# EAGLE library part DPDT_SWITCH (library 326298_rev_a)
MARQUARDT SWITCH 9077.0200 Distributor: Buerklin <https://www.buerklin.com/default.asp?event=ShowArtikel%2812G2822%29&l=d&jump=ArtNr_12G2822>
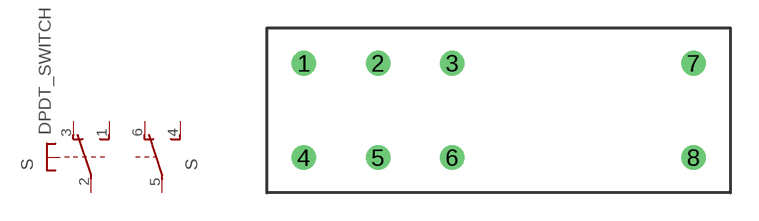
[diagram p29: symbol with the pads of DPDT_SWITCH; footprint DPDT_SWITCH]

Designator prefix S; gates 1=TSU- 2=U-2

## DPDT_SWITCH  [DPDT_SWITCH]
1  1:S  pas
2  1:P  pas
3  1:O  pas
4  2:S  pas
5  2:P  pas
6  2:O  pas

## Footprint DPDT_SWITCH (pad centres in mm)
MARQUARDT SWITCH 9077.0200 Distributor: Buerklin <https://www.buerklin.com/default.asp?event=ShowArtikel%2812G2822%29&l=d&jump=ArtNr_12G2822>
drill 0.813: 1 -4,2.54; 2 0,2.54; 3 4,2.54; 4 -4,-2.54; 5 0,-2.54; 6 4,-2.54; 7 17,2.54; 8 17,-2.54